# Altium footprint library 2005Parts.PCBLIB: 27 footprints (part 2 of 2)
Each footprint in its own frame and in the unit in brackets; x right, y up, seen from the top. Pads: shape width x height; smd on the part's side, far side on the other; paste and mask are expansions set on the pad; w line width, h text height; cw(c..) or ccw(c..) is an arc to the next point about the centre after c.
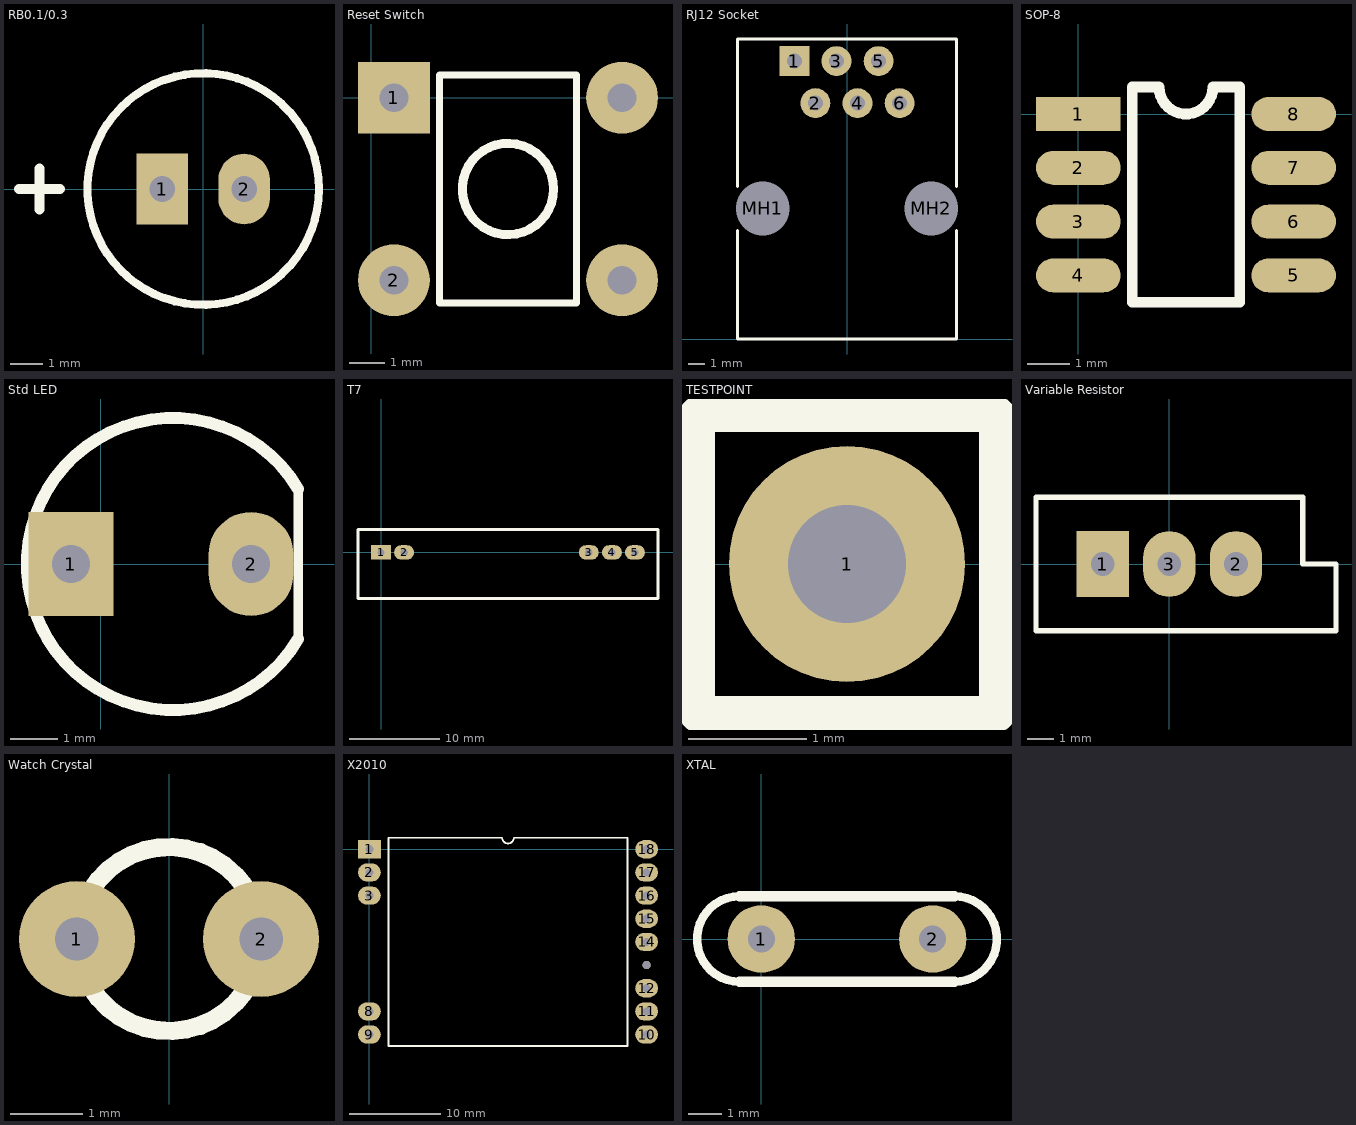
[diagram p1: the footprints below, top view; thin cyan lines are the x and y axes]

## RB0.1/0.3 [mm]
pads (2):
  rect 1.6x2.2 hole 0.8: 1(-1.27,0)
  oval 1.6x2.2 hole 0.8: 2(1.27,0)
Top Overlay:
  circle w0.254: c0,0 r3.592
  lines w0.305: -5.715,0 -4.445,0 ; -5.08,-0.635 -5.08,0.635

## Reset Switch [mm]
pads (4):
  rect 2x2 hole 0.8: 1(0.635,0)
  round 2 hole 0.8: 2(0.635,-5.08) ""(6.985,-5.08) ""(6.985,0)
Top Overlay:
  circle w0.254: c3.81,-2.54 r1.27
  lines w0.2: 1.905,-5.715 1.905,0.635 5.715,0.635 5.715,-5.715 1.905,-5.715

## RJ12 Socket [mm]
pads (8):
  rect 1.8x1.8 hole 0.9: 1(-3.175,16.77)
  round 1.8 hole 0.9: 2(-1.905,14.23) 3(-0.635,16.77) 4(0.635,14.23) 5(1.905,16.77) 6(3.175,14.23)
  round 2.95 hole 3.25: MH1(-5.08,7.88) MH2(5.08,7.88)
Top Overlay:
  lines w0.2: -6.605,6.548 -6.605,0 6.605,0 6.605,6.548 ; -6.605,9.212 -6.605,18.1 6.605,18.1 6.605,9.212

## SOP-8 [mm]
pads (8):
  rect 2x0.8 smd: 1(0,0)
  oval 2x0.8 smd: 2(0,-1.27) 3(0,-2.54) 4(0,-3.81) 5(5.08,-3.81) 6(5.08,-2.54) 7(5.08,-1.27) 8(5.08,0)
Top Overlay:
  lines w0.254: 1.27,-4.445 3.81,-4.445 3.81,0.635 3.175,0.635 cw(c2.54,0.635) 1.905,0.635 1.27,0.635 1.27,-4.445

## Std LED [mm]
pads (2):
  rect 1.8x2.2 hole 0.8: 1(-0.635,0)
  oval 1.8x2.2 hole 0.8: 2(3.175,0)
Top Overlay:
  lines w0.2: 4.174,-1.59 4.174,1.59
  lines w0.254: 4.174,-1.59 cw(c1.524,0) 4.174,1.59

## T7 [mm]
pads (5):
  rect 2.2x1.6 hole 0.8: 1(0,0)
  oval 2.2x1.6 hole 0.8: 2(2.54,0) 3(22.86,0) 4(25.4,0) 5(27.94,0)
Top Overlay:
  lines w0.305: -2.54,-5.08 -2.54,2.54 30.48,2.54 30.48,-5.08 -2.54,-5.08

## TESTPOINT [mm] "Test Point"
height 10
pads (1):
  round 2 hole 1: 1(2.54,0)
Top Overlay:
  lines w0.305: 1.27,-1.27 1.27,1.27 3.81,1.27 3.81,-1.27 1.27,-1.27

## Variable Resistor [mm]
pads (3):
  rect 2x2.5 hole 0.9: 1(-2.54,0)
  oval 2x2.5 hole 0.9: 2(2.54,0) 3(0,0)
Top Overlay:
  lines w0.2: -5.08,-2.54 6.35,-2.54 6.35,0 5.08,0 5.08,2.54 -5.08,2.54 -5.08,-2.54

## Watch Crystal [mm]
pads (2):
  round 1.6 hole 0.6: 1(-1.27,-2.54) 2(1.27,-2.54)
Top Overlay:
  circle w0.254: c0,-2.54 r1.27

## X2010 [mm]
pads (14):
  rect 2.5x2 hole 0.9: 1(0,0)
  oval 2.5x2 hole 0.9: 2(0,-2.54) 3(0,-5.08) 8(0,-17.78) 9(0,-20.32) 10(30.4,-20.32) 11(30.4,-17.78) 12(30.4,-15.24) 14(30.4,-10.16) 15(30.4,-7.62) 16(30.4,-5.08) 17(30.4,-2.54) 18(30.4,0)
  round 0.9 hole 0.9: 13(30.4,-12.7)
Top Overlay:
  lines w0.2: 2.085,-21.59 2.085,1.27 14.565,1.27 ccw(c15.2,1.27) 15.835,1.27 28.315,1.27 28.315,-21.59 2.085,-21.59

## XTAL [mm] "Crystal"
height 10
pads (2):
  round 2 hole 0.8: 1(0,0) 2(5.08,0)
Top Overlay:
  lines w0.254: -0.635,-1.27 cw(c-0.635,0) -0.635,1.27 ; 5.715,-1.27 ccw(c5.715,0) 5.715,1.27
  lines w0.305: -0.635,-1.27 5.715,-1.27 ; -0.635,1.27 5.715,1.27